# Altium footprint library DIPS762W70P254L1778H510Q14N.PcbLib: 1 footprints
Each footprint in its own frame and in the unit in brackets; x right, y up, seen from the top. Pads: shape width x height; smd on the part's side, far side on the other; paste and mask are expansions set on the pad; w line width, h text height; cw(c..) or ccw(c..) is an arc to the next point about the centre after c.
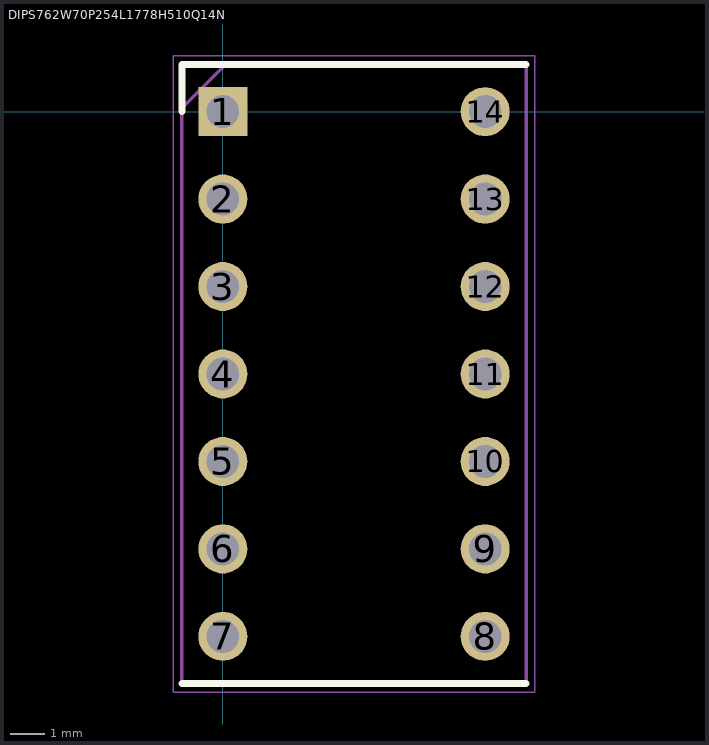
[diagram p0: the footprint, top view; thin cyan lines are the x and y axes]

## DIPS762W70P254L1778H510Q14N [mm]
pads (14):
  rect 1.425x1.425 / inner round 1.425 / far side rect 1.425x1.425 hole 0.95: 1(0,0)
  round 1.425 hole 0.95: 2(0,-2.54) 3(0,-5.08) 4(0,-7.62) 5(0,-10.16) 6(0,-12.7) 7(0,-15.24) 8(7.62,-15.24) 9(7.62,-12.7) 10(7.62,-10.16) 11(7.62,-7.62) 12(7.62,-5.08) 13(7.62,-2.54) 14(7.62,0)
Top Overlay:
  lines w0.2: -1.19,-16.61 8.81,-16.61 ; -1.19,0 -1.19,1.37 8.81,1.37
Mechanical 15:
  lines w0.1: -1.19,0.1 0.08,1.37 ; -1.19,-16.61 8.81,-16.61 8.81,1.37 -1.19,1.37 -1.19,-16.61
Mechanical 20:
  lines w0.05: -1.44,-16.86 9.06,-16.86 9.06,1.62 -1.44,1.62 -1.44,-16.86